# Altium footprint library KP_PCB_Lib_20L.PcbLib: 4 footprints
Each footprint in its own frame and in the unit in brackets; x right, y up, seen from the top. Pads: shape width x height; smd on the part's side, far side on the other; paste and mask are expansions set on the pad; w line width, h text height; cw(c..) or ccw(c..) is an arc to the next point about the centre after c.
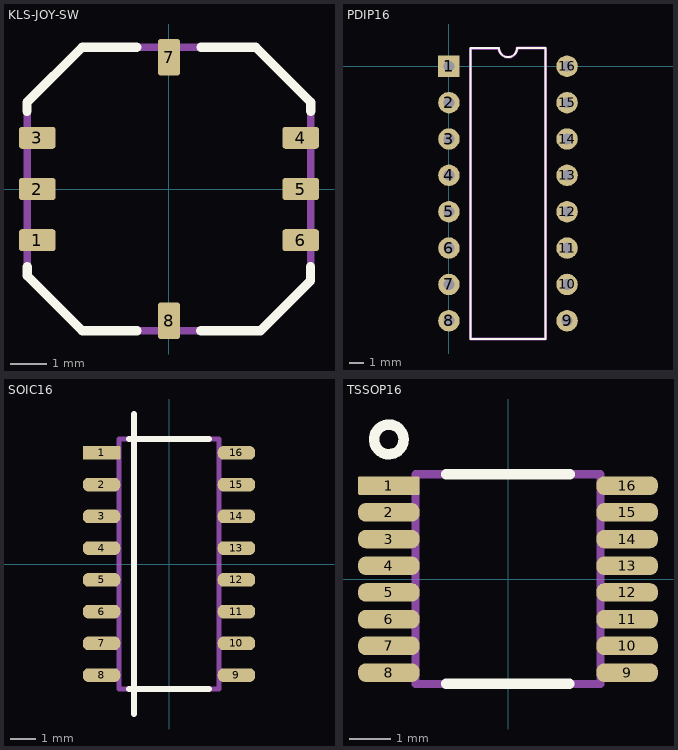
[diagram p0: the footprints below, top view; thin cyan lines are the x and y axes]

## KLS-JOY-SW [mm]
height 5.1
pads (8):
  rrect25% 1x0.6 smd paste-0.05: 1(-3.6,-1.4) 2(-3.6,0) 3(-3.6,1.4) 4(3.6,1.4) 5(3.6,0) 6(3.6,-1.4)
  rrect25% 0.6x1 smd paste-0.05: 7(0,3.6) 8(0,-3.6)
Top Overlay:
  lines w0.254: -3.88,2.125 -3.88,2.37 -2.375,3.875 -0.88,3.875 ; -3.875,-2.126 -3.875,-2.375 -2.375,-3.875 -0.875,-3.875 ; 0.87,-3.875 2.5,-3.875 3.87,-2.505 3.87,-2.125 ; 0.875,3.875 2.375,3.875 3.875,2.375 3.875,2.126
Body:
  lines w0.2: -3.875,-2.375 -2.375,-3.875 2.5,-3.875 3.875,-2.5 3.875,2.375 2.375,3.875 -2.375,3.875 -3.875,2.375 -3.875,-2.375
3D body: height 1.85, standoff 0, extent -3.877,-3.873 3.877,3.877
3D body: height 2.7, standoff 0.1, extent -1.95,-1.947 1.95,1.947
3D body: height 0.25, standoff 0, extent 6,4.25 6,4.25
3D body: height 5.1, standoff 0.05, extent -1.17,-1.173 1.17,1.173

## PDIP16 [mm]
height 5.08
pads (16):
  rect 1.5x1.5 hole 0.75: 1(0,0)
  round 1.5 hole 0.75: 2(0,-2.54) 3(0,-5.08) 4(0,-7.62) 5(0,-10.16) 6(0,-12.7) 7(0,-15.24) 8(0,-17.78) 9(8.255,-17.78) 10(8.255,-15.24) 11(8.255,-12.7) 12(8.255,-10.16) 13(8.255,-7.62) 14(8.255,-5.08) 15(8.255,-2.54) 16(8.255,0)
Top Overlay:
  lines w0.13: 1.515,-19.05 6.74,-19.05 6.74,1.27 4.763,1.27 cw(c4.127,1.27) 3.492,1.27 1.515,1.27 1.515,-19.05
Body:
  lines w0.2: 1.515,-19.05 6.74,-19.05 6.74,1.27 4.763,1.27 cw(c4.143,1.27) 4.581,0.832 4.54,0.79 cw(c4.148,1.182) 4.148,0.628 cw(c4.148,1.244) 3.713,0.809 3.632,0.89 cw(c3.992,1.251) 3.482,1.251 1.515,1.251 1.515,-19.05
3D body: height 4.7, standoff 0.38, extent 1.543,-19.069 6.768,1.251
3D body: height 1.27, standoff 0, extent 4.127,-3.07 4.127,-3.07

## SOIC16 [mm]
height 1.75
pads (16):
  rrect15% 1.5x0.55 smd paste-0.05: 1(-2.7,4.445)
  rrect85% 1.5x0.55 smd paste-0.05: 2(-2.7,3.175) 3(-2.7,1.905) 4(-2.7,0.635) 5(-2.7,-0.635) 6(-2.7,-1.905) 7(-2.7,-3.175) 8(-2.7,-4.445) 9(2.7,-4.445) 10(2.7,-3.175) 11(2.7,-1.905) 12(2.7,-0.635) 13(2.7,0.635) 14(2.7,1.905) 15(2.7,3.175) 16(2.7,4.445)
Top Overlay:
  lines w0.254: -1.6,-5 1.6,-5 ; -1.6,5 1.588,5 ; -1.4,-6 -1.4,6
Body:
  lines w0.2: -2,-5 2,-5 2,5 -2,5 -2,-5
3D body: height 1.27, standoff 0.1, extent -2,-5 2,5

## TSSOP16 [mm]
height 1.2
pads (16):
  rrect15% 1.5x0.45 smd paste-0.05: 1(-2.9,2.275)
  rrect85% 1.5x0.45 smd paste-0.05: 2(-2.9,1.625) 3(-2.9,0.975) 4(-2.9,0.325) 5(-2.9,-0.325) 6(-2.9,-0.975) 7(-2.9,-1.625) 8(-2.9,-2.275) 9(2.9,-2.275) 10(2.9,-1.625) 11(2.9,-0.975) 12(2.9,-0.325) 13(2.9,0.325) 14(2.9,0.975) 15(2.9,1.625) 16(2.9,2.275)
Top Overlay:
  circle w0.254: c-2.9,3.4 r0.361
  lines w0.254: -1.506,2.55 1.5,2.55 ; -1.5,-2.55 1.497,-2.55
Body:
  lines w0.2: -2.25,-2.55 -2.25,2.55 2.25,2.55 2.25,-2.55 -2.25,-2.55
3D body: height 1.15, standoff 0.05, extent -2.25,-2.55 2.25,2.55